# Altium footprint library HARSH_Payload_PcbLib.PcbLib: 44 footprints (part 3 of 3)
Each footprint in its own frame and in the unit in brackets; x right, y up, seen from the top. Pads: shape width x height; smd on the part's side, far side on the other; paste and mask are expansions set on the pad; w line width, h text height; cw(c..) or ccw(c..) is an arc to the next point about the centre after c.
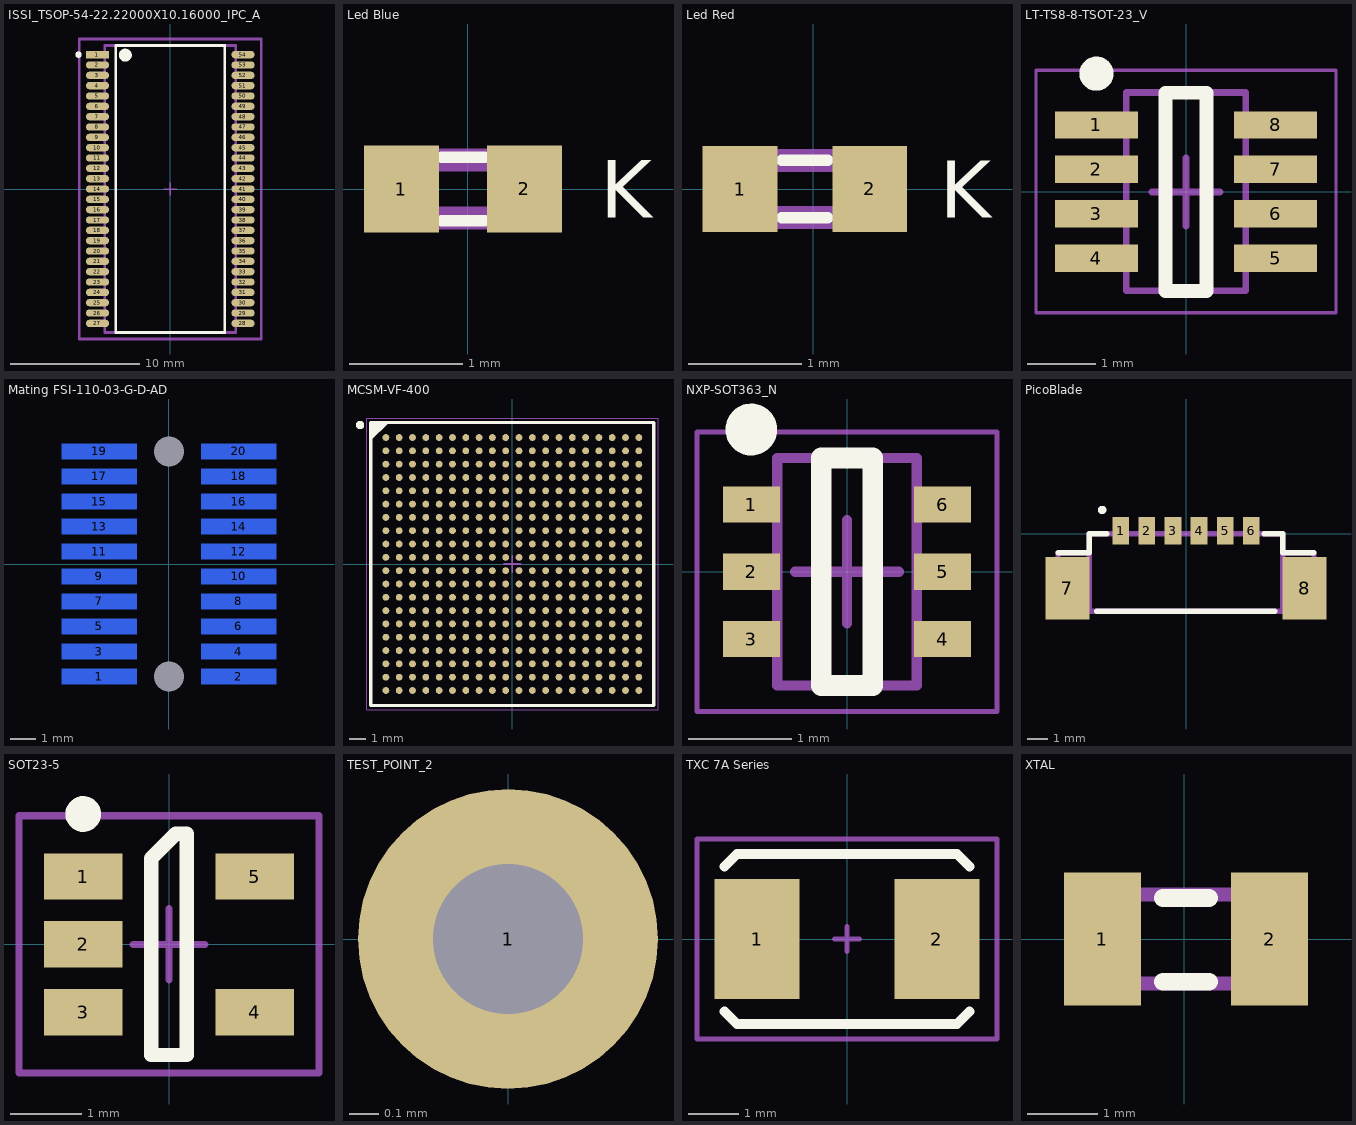
[diagram p2: the footprints below, top view; thin cyan lines are the x and y axes]

## ISSI_TSOP-54-22.22000X10.16000_IPC_A [mm]
pads (54):
  rect 1.806x0.566 smd paste+0 mask+0: 1(-5.63,10.4)
  rrect100% 1.806x0.566 smd paste+0 mask+0: 2(-5.63,9.6) 3(-5.63,8.8) 4(-5.63,8) 5(-5.63,7.2) 6(-5.63,6.4) 7(-5.63,5.6) 8(-5.63,4.8) 9(-5.63,4) 10(-5.63,3.2) 11(-5.63,2.4) 12(-5.63,1.6) 13(-5.63,0.8) 14(-5.63,0) 15(-5.63,-0.8) 16(-5.63,-1.6) 17(-5.63,-2.4) 18(-5.63,-3.2) 19(-5.63,-4) 20(-5.63,-4.8) 21(-5.63,-5.6) 22(-5.63,-6.4) 23(-5.63,-7.2) 24(-5.63,-8) 25(-5.63,-8.8) 26(-5.63,-9.6) 27(-5.63,-10.4) 28(5.63,-10.4) 29(5.63,-9.6) 30(5.63,-8.8) 31(5.63,-8) 32(5.63,-7.2) 33(5.63,-6.4) 34(5.63,-5.6) 35(5.63,-4.8) 36(5.63,-4) 37(5.63,-3.2) 38(5.63,-2.4) 39(5.63,-1.6) 40(5.63,-0.8) 41(5.63,0) 42(5.63,0.8) 43(5.63,1.6) 44(5.63,2.4) 45(5.63,3.2) 46(5.63,4) 47(5.63,4.8) 48(5.63,5.6) 49(5.63,6.4) 50(5.63,7.2) 51(5.63,8) 52(5.63,8.8) 53(5.63,9.6) 54(5.63,10.4)
Top Overlay:
  circle w0.5: c-3.477,10.36 r0.25
  circle w0.25: c-7.1,10.4 r0.125
  lines w0.2: -4.227,-11.11 4.227,-11.11 4.227,11.11 -4.227,11.11 -4.227,-11.11
Mechanical 10:
  lines w0.2: -7.033,-11.61 7.033,-11.61 7.033,11.61 -7.033,11.61 -7.033,-11.61
  text ".Designator" at 0,0 h1
Mechanical 12:
  lines w0.2: -5.08,-11.11 5.08,-11.11 5.08,11.11 -5.08,11.11 -5.08,-11.11
ASM Top:
  lines w0.1: -0.5,0 0.5,0 ; 0,-0.5 0,0.5
  lines w0.2: -7.033,-11.61 7.033,-11.61 7.033,11.61 -7.033,11.61 -7.033,-11.61
3D body "IC_ISSI_IS42S16320F-7TLI_eec.STEP": height 0.25, standoff 0, extent -7.033,-11.61 7.033,11.61

## Led Blue [mil] "Led Blue"
pads (2):
  rect 26x30 smd: 1(-23,0) 2(19.69,0.01)
Top Overlay:
  lines w3.94: -9,-11 6,-11 ; -9,11 6,11
  text "K" at 46,-10 h20
Mechanical 2:
  lines w8: -20,-10 20,-10 ; -20,10 20,10
Mechanical 16:
  lines w8: -20,-10 -20,10 ; 20,-10 20,10
3D body "4444444444444444444444444.step.STEP": height 16.84, standoff -2.85, extent -20.68,-9.84 18.69,9.85

## Led Red [mil] "Led Red"
pads (2):
  rect 26x30 smd: 1(-25.59,0) 2(19.69,0.01)
Top Overlay:
  lines w3.94: -11,-10 5,-10 ; -11,10 5,10
  text "K" at 44,-10 h20
Mechanical 2:
  lines w8: -20,-10 20,-10 ; -20,10 20,10
Mechanical 16:
  lines w8: -20,-10 -20,10 ; 20,-10 20,10
3D body "aaaaaaaaaaaaaaaaaaaaa.step": height 16.84, standoff -2.84, extent -23.68,-9.84 15.69,9.85

## LT-TS8-8-TSOT-23_V [mm] "SOT23, 8-Leads, Body 2.9x1.75mm, Pitch 0.65mm"
height 1
pads (8):
  rect 1.22x0.4 smd: 1(-1.31,0.975) 2(-1.31,0.325) 3(-1.31,-0.325) 4(-1.31,-0.975) 5(1.31,-0.975) 6(1.31,-0.325) 7(1.31,0.325) 8(1.31,0.975)
Top Overlay:
  circle w0.25: c-1.31,1.726 r0.125
  lines w0.2: -0.3,-1.454 -0.3,1.446 0.3,1.446 0.3,-1.454 -0.3,-1.454
Mechanical 13:
  lines w0.1: -0.875,-1.45 0.875,-1.45 0.875,1.45 -0.875,1.45 -0.875,-1.45
ASM Top:
  lines w0.05: -2.195,-1.775 -1.75,-1.775 1.75,-1.775 2.195,-1.775 2.195,-1.55 2.195,1.55 2.195,1.775 1.75,1.775 -1.75,1.775 -2.195,1.775 -2.195,1.55 -2.195,-1.55 -2.195,-1.775
  lines w0.1: -0.501,-0.004 0.499,-0.004 ; -0.001,-0.504 -0.001,0.496
3D body: height 1, standoff 0.01, extent -0.875,-1.45 0.875,1.45

## Mating FSI-110-03-G-D-AD [mm]
pads (22):
  rect 3x0.61 smd far side: 1(-2.8,-4.5) 2(2.8,-4.5) 3(-2.8,-3.5) 4(2.8,-3.5) 5(-2.8,-2.5) 6(2.8,-2.5) 7(-2.8,-1.5) 8(2.8,-1.5) 9(-2.8,-0.5) 10(2.8,-0.5) 11(-2.8,0.5) 12(2.8,0.5) 13(-2.8,1.5) 14(2.8,1.5) 15(-2.8,2.5) 16(2.8,2.5) 17(-2.8,3.5) 18(2.8,3.5) 19(-2.8,4.5) 20(2.8,4.5)
  round 0 hole 1.2: AT(0,-4.5) AT(0,4.5)
Bottom Overlay:
  lines w0.1: -4.625,-5.48 4.625,-5.48 4.625,5.6 -4.625,5.6 -4.625,-5.48
  text "DVCC" at -5.45,-4.775 h0.5
  text "ANT" at -5.7,-3.775 h0.5
  text "BAT" at -5.7,-2.75 h0.5
  text "CLK" at -5.7,0.2 h0.5
  text "MISO" at -5.492,1.25 h0.5
  text "MOSI" at -5.533,2.2 h0.5
  text "IC2C" at 7.2,3.625 h0.5
  text "ADC" at 6.992,1.167 h0.5
  text "GPIO" at 7.2,-1.292 h0.5
  text "GND" at 6.992,-3.75 h0.5
  text "CS" at -5.95,3.825 h0.5
  text "GPIO" at -5.492,-1.2 h0.5

## MCSM-VF-400 [mm] "BGA, 400-Balls, Body 17x17mm, Pitch 0.8mm"
height 1.51
pads (400):
  round 0.41 smd: A1(-7.6,7.6) A2(-6.8,7.6) A3(-6,7.6) A4(-5.2,7.6) A5(-4.4,7.6) A6(-3.6,7.6) A7(-2.8,7.6) A8(-2,7.6) A9(-1.2,7.6) A10(-0.4,7.6) A11(0.4,7.6) A12(1.2,7.6) A13(2,7.6) A14(2.8,7.6) A15(3.6,7.6) A16(4.4,7.6) A17(5.2,7.6) A18(6,7.6) A19(6.8,7.6) A20(7.6,7.6) B1(-7.6,6.8) B2(-6.8,6.8) B3(-6,6.8) B4(-5.2,6.8) B5(-4.4,6.8) B6(-3.6,6.8) B7(-2.8,6.8) B8(-2,6.8) B9(-1.2,6.8) B10(-0.4,6.8) B11(0.4,6.8) B12(1.2,6.8) B13(2,6.8) B14(2.8,6.8) B15(3.6,6.8) B16(4.4,6.8) B17(5.2,6.8) B18(6,6.8) B19(6.8,6.8) B20(7.6,6.8) C1(-7.6,6) C2(-6.8,6) C3(-6,6) C4(-5.2,6) C5(-4.4,6) C6(-3.6,6) C7(-2.8,6) C8(-2,6) C9(-1.2,6) C10(-0.4,6) C11(0.4,6) C12(1.2,6) C13(2,6) C14(2.8,6) C15(3.6,6) C16(4.4,6) C17(5.2,6) C18(6,6) C19(6.8,6) C20(7.6,6) D1(-7.6,5.2) D2(-6.8,5.2) D3(-6,5.2) D4(-5.2,5.2) D5(-4.4,5.2) D6(-3.6,5.2) D7(-2.8,5.2) D8(-2,5.2) D9(-1.2,5.2) D10(-0.4,5.2) D11(0.4,5.2) D12(1.2,5.2) D13(2,5.2) D14(2.8,5.2) D15(3.6,5.2) D16(4.4,5.2) D17(5.2,5.2) D18(6,5.2) D19(6.8,5.2) D20(7.6,5.2) E1(-7.6,4.4) E2(-6.8,4.4) E3(-6,4.4) E4(-5.2,4.4) E5(-4.4,4.4) E6(-3.6,4.4) E7(-2.8,4.4) E8(-2,4.4) E9(-1.2,4.4) E10(-0.4,4.4) E11(0.4,4.4) E12(1.2,4.4) E13(2,4.4) E14(2.8,4.4) E15(3.6,4.4) E16(4.4,4.4) E17(5.2,4.4) E18(6,4.4) E19(6.8,4.4) E20(7.6,4.4) F1(-7.6,3.6) F2(-6.8,3.6) F3(-6,3.6) F4(-5.2,3.6) F5(-4.4,3.6) F6(-3.6,3.6) F7(-2.8,3.6) F8(-2,3.6) F9(-1.2,3.6) F10(-0.4,3.6) F11(0.4,3.6) F12(1.2,3.6) F13(2,3.6) F14(2.8,3.6) F15(3.6,3.6) F16(4.4,3.6) F17(5.2,3.6) F18(6,3.6) F19(6.8,3.6) F20(7.6,3.6) G1(-7.6,2.8) G2(-6.8,2.8) G3(-6,2.8) G4(-5.2,2.8) G5(-4.4,2.8) G6(-3.6,2.8) G7(-2.8,2.8) G8(-2,2.8) G9(-1.2,2.8) G10(-0.4,2.8) G11(0.4,2.8) G12(1.2,2.8) G13(2,2.8) G14(2.8,2.8) G15(3.6,2.8) G16(4.4,2.8) G17(5.2,2.8) G18(6,2.8) G19(6.8,2.8) G20(7.6,2.8) H1(-7.6,2) H2(-6.8,2) H3(-6,2) H4(-5.2,2) H5(-4.4,2) H6(-3.6,2) H7(-2.8,2) H8(-2,2) H9(-1.2,2) H10(-0.4,2) H11(0.4,2) H12(1.2,2) H13(2,2) H14(2.8,2) H15(3.6,2) H16(4.4,2) H17(5.2,2) H18(6,2) H19(6.8,2) H20(7.6,2) J1(-7.6,1.2) J2(-6.8,1.2) J3(-6,1.2) J4(-5.2,1.2) J5(-4.4,1.2) J6(-3.6,1.2) J7(-2.8,1.2) J8(-2,1.2) J9(-1.2,1.2) J10(-0.4,1.2) J11(0.4,1.2) J12(1.2,1.2) J13(2,1.2) J14(2.8,1.2) J15(3.6,1.2) J16(4.4,1.2) J17(5.2,1.2) J18(6,1.2) J19(6.8,1.2) J20(7.6,1.2) K1(-7.6,0.4) K2(-6.8,0.4) K3(-6,0.4) K4(-5.2,0.4) K5(-4.4,0.4) K6(-3.6,0.4) K7(-2.8,0.4) K8(-2,0.4) K9(-1.2,0.4) K10(-0.4,0.4) K11(0.4,0.4) K12(1.2,0.4) K13(2,0.4) K14(2.8,0.4) K15(3.6,0.4) K16(4.4,0.4) K17(5.2,0.4) K18(6,0.4) K19(6.8,0.4) K20(7.6,0.4) L1(-7.6,-0.4) L2(-6.8,-0.4) L3(-6,-0.4) L4(-5.2,-0.4) L5(-4.4,-0.4) L6(-3.6,-0.4) L7(-2.8,-0.4) L8(-2,-0.4) L9(-1.2,-0.4) L10(-0.4,-0.4) L11(0.4,-0.4) L12(1.2,-0.4) L13(2,-0.4) L14(2.8,-0.4) L15(3.6,-0.4) L16(4.4,-0.4) L17(5.2,-0.4) L18(6,-0.4) L19(6.8,-0.4) L20(7.6,-0.4) M1(-7.6,-1.2) M2(-6.8,-1.2) M3(-6,-1.2) M4(-5.2,-1.2) M5(-4.4,-1.2) M6(-3.6,-1.2) M7(-2.8,-1.2) M8(-2,-1.2) M9(-1.2,-1.2) M10(-0.4,-1.2) M11(0.4,-1.2) M12(1.2,-1.2) M13(2,-1.2) M14(2.8,-1.2) M15(3.6,-1.2) M16(4.4,-1.2) M17(5.2,-1.2) M18(6,-1.2) M19(6.8,-1.2) M20(7.6,-1.2) N1(-7.6,-2) N2(-6.8,-2) N3(-6,-2) N4(-5.2,-2) N5(-4.4,-2) N6(-3.6,-2) N7(-2.8,-2) N8(-2,-2) N9(-1.2,-2) N10(-0.4,-2) N11(0.4,-2) N12(1.2,-2) N13(2,-2) N14(2.8,-2) N15(3.6,-2) N16(4.4,-2) N17(5.2,-2) N18(6,-2) N19(6.8,-2) N20(7.6,-2) P1(-7.6,-2.8) P2(-6.8,-2.8) P3(-6,-2.8) P4(-5.2,-2.8) P5(-4.4,-2.8) P6(-3.6,-2.8) P7(-2.8,-2.8) P8(-2,-2.8) P9(-1.2,-2.8) P10(-0.4,-2.8) P11(0.4,-2.8) P12(1.2,-2.8) P13(2,-2.8) P14(2.8,-2.8) P15(3.6,-2.8) P16(4.4,-2.8) P17(5.2,-2.8) P18(6,-2.8) P19(6.8,-2.8) P20(7.6,-2.8) R1(-7.6,-3.6) R2(-6.8,-3.6) R3(-6,-3.6) R4(-5.2,-3.6) R5(-4.4,-3.6) R6(-3.6,-3.6) R7(-2.8,-3.6) R8(-2,-3.6) R9(-1.2,-3.6) R10(-0.4,-3.6) R11(0.4,-3.6) R12(1.2,-3.6) R13(2,-3.6) R14(2.8,-3.6) R15(3.6,-3.6) R16(4.4,-3.6) R17(5.2,-3.6) R18(6,-3.6) R19(6.8,-3.6) R20(7.6,-3.6) T1(-7.6,-4.4) T2(-6.8,-4.4) T3(-6,-4.4) T4(-5.2,-4.4) T5(-4.4,-4.4) T6(-3.6,-4.4) T7(-2.8,-4.4) T8(-2,-4.4) T9(-1.2,-4.4) T10(-0.4,-4.4) T11(0.4,-4.4) T12(1.2,-4.4) T13(2,-4.4) T14(2.8,-4.4) T15(3.6,-4.4) T16(4.4,-4.4) T17(5.2,-4.4) T18(6,-4.4) T19(6.8,-4.4) T20(7.6,-4.4) U1(-7.6,-5.2) U2(-6.8,-5.2) U3(-6,-5.2) U4(-5.2,-5.2) U5(-4.4,-5.2) U6(-3.6,-5.2) U7(-2.8,-5.2) U8(-2,-5.2) U9(-1.2,-5.2) U10(-0.4,-5.2) U11(0.4,-5.2) U12(1.2,-5.2) U13(2,-5.2) U14(2.8,-5.2) U15(3.6,-5.2) U16(4.4,-5.2) U17(5.2,-5.2) U18(6,-5.2) U19(6.8,-5.2) U20(7.6,-5.2) V1(-7.6,-6) V2(-6.8,-6) V3(-6,-6) V4(-5.2,-6) V5(-4.4,-6) V6(-3.6,-6) V7(-2.8,-6) V8(-2,-6) V9(-1.2,-6) V10(-0.4,-6) V11(0.4,-6) V12(1.2,-6) V13(2,-6) V14(2.8,-6) V15(3.6,-6) V16(4.4,-6) V17(5.2,-6) V18(6,-6) V19(6.8,-6) V20(7.6,-6) W1(-7.6,-6.8) W2(-6.8,-6.8) W3(-6,-6.8) W4(-5.2,-6.8) W5(-4.4,-6.8) W6(-3.6,-6.8) W7(-2.8,-6.8) W8(-2,-6.8) W9(-1.2,-6.8) W10(-0.4,-6.8) W11(0.4,-6.8) W12(1.2,-6.8) W13(2,-6.8) W14(2.8,-6.8) W15(3.6,-6.8) W16(4.4,-6.8) W17(5.2,-6.8) W18(6,-6.8) W19(6.8,-6.8) W20(7.6,-6.8) Y1(-7.6,-7.6) Y2(-6.8,-7.6) Y3(-6,-7.6) Y4(-5.2,-7.6) Y5(-4.4,-7.6) Y6(-3.6,-7.6) Y7(-2.8,-7.6) Y8(-2,-7.6) Y9(-1.2,-7.6) Y10(-0.4,-7.6) Y11(0.4,-7.6) Y12(1.2,-7.6) Y13(2,-7.6) Y14(2.8,-7.6) Y15(3.6,-7.6) Y16(4.4,-7.6) Y17(5.2,-7.6) Y18(6,-7.6) Y19(6.8,-7.6) Y20(7.6,-7.6)
Top Overlay:
  circle w0.25: c-9.15,8.35 r0.125
  region: -7.556,8.5 -8.5,7.556 -8.5,8.5
  lines w0.2: -8.5,7.556 -7.556,8.5 ; -8.5,-8.5 8.5,-8.5 8.5,8.5 -8.5,8.5 -8.5,-8.5
Mechanical 13:
  lines w0.1: -8.5,-8.5 8.5,-8.5 8.5,8.5 -8.5,8.5 -8.5,-8.5
ASM Top:
  lines w0.05: -8.75,-8.75 8.75,-8.75 8.75,8.75 -8.75,8.75 -8.75,-8.75
  lines w0.1: -0.5,0 0.5,0 ; 0,-0.5 0,0.5
3D body: height 1.51, standoff 0.32, extent -8.5,-8.5 8.5,8.5

## NXP-SOT363_N [mm] "SOT23, 6-Leads, Body 2.2x1.35mm, Pitch 0.65mm, IPC Medium Density"
height 1.1
pads (6):
  rect 0.55x0.35 smd: 1(-0.925,0.65) 2(-0.925,0) 3(-0.925,-0.65) 4(0.925,-0.65) 5(0.925,0) 6(0.925,0.65)
Top Overlay:
  circle w0.25: c-0.925,1.375 r0.125
  lines w0.2: -0.25,-1.1 0.25,-1.1 0.25,1.1 -0.25,1.1 -0.25,-1.1
Mechanical 13:
  lines w0.1: -0.675,-1.1 -0.675,1.1 0.675,1.1 0.675,-1.1 -0.675,-1.1
ASM Top:
  lines w0.05: -1.45,-1.35 -1.45,1.35 1.45,1.35 1.45,-1.35 -1.45,-1.35
  lines w0.1: -0.5,0 0.5,0 ; 0,-0.5 0,0.5
3D body: height 1.1, standoff 0, extent -0.675,-1.1 0.675,1.1

## PicoBlade [mm]
pads (8):
  rect 0.8x1.3 smd: 1(-3.125,0.15) 2(-1.875,0.15) 3(-0.625,0.15) 4(0.625,0.15) 5(1.875,0.15) 6(3.125,0.15)
  rect 2.1x3 smd: 7(-5.675,-2.6) 8(5.675,-2.6)
Top Overlay:
  circle w0.254: c-4.011,1.145 r0.072
  lines w0.254: -6.125,-0.9 -4.625,-0.9 -4.625,0 -3.784,0 ; -4.28,-3.7 4.259,-3.7 ; 3.735,0 4.625,0 4.625,-0.9 6.125,-0.9
Mechanical 13:
  lines w0.254: -4.625,-0.9 -6.125,-0.9 -6.125,-3.7 -4.625,-3.7 ; 4.625,-0.9 6.125,-0.9 6.125,-3.7 4.625,-3.7 ; -4.625,-3.7 -4.625,0 4.625,0 4.625,-3.7 ; -4.625,-3.7 4.625,-3.7
3D body "53398-0671.stp": height 4.8, standoff 0.1, extent -6.322,-3.983 6.327,0.217

## SOT23-5 [mm]
height 1.45
pads (5):
  rect 1.1x0.65 smd: 1(-1.2,0.95) 2(-1.2,0) 3(-1.2,-0.95) 4(1.2,-0.95) 5(1.2,0.95)
Top Overlay:
  circle w0.25: c-1.2,1.825 r0.125
  lines w0.2: -0.25,-1.55 0.25,-1.55 0.25,1.55 0.094,1.55 -0.25,1.206 -0.25,-1.55
ASM Top:
  lines w0.1: -0.5,0 0.5,0 ; 0,-0.5 0,0.5 ; -2.1,-1.8 -2.1,1.8 2.1,1.8 2.1,-1.8 -2.1,-1.8
3D body "SOT23-5.STEP": height 1.3, standoff 0, extent -1.5,-1.5 1.5,1.5

## TEST_POINT_2 [mil]
height 122.05
pads (1):
  round 40 hole 20: 1(0,0)

## TXC 7A Series [mm]
height 0.9
pads (2):
  rect 1.7x2.4 smd: 1(-1.8,0) 2(1.8,0)
Top Overlay:
  lines w0.2: -2.45,-1.45 -2.2,-1.7 2.2,-1.7 2.45,-1.45 ; -2.45,1.45 -2.2,1.7 2.2,1.7 2.45,1.45
ASM Top:
  lines w0.1: -0.25,0 0.25,0 ; 0,-0.25 0,0.25 ; -3,-2 3,-2 3,2 -3,2 -3,-2
3D body "User Library-445-CRYTAL-SMD.STEP": height 1.35, standoff 0, extent -2.5,-1.6 2.5,1.6

## XTAL [mm] "0805M"
pads (2):
  rect 1.1x1.9 smd: 1(-1.168,0) 2(1.219,0)
Top Overlay:
  lines w0.254: -0.305,-0.61 0.356,-0.61 ; -0.305,0.584 0.356,0.584
Mechanical 3:
  lines w0.203: -1.016,-0.635 1.016,-0.635 ; -1.016,0.635 1.016,0.635
Mechanical 16:
  lines w0.203: -1.016,-0.635 -1.016,0.635 ; 1.016,-0.635 1.016,0.635
3D body: height 0.9, standoff 0, extent -1.499,-0.762 1.524,0.688
3D body: height 0.25, standoff 0, extent -0.508,2.032 -0.508,2.032